# Altium footprint library PCB2.PcbLib: 48 footprints (part 1 of 3)
Each footprint in its own frame and in the unit in brackets; x right, y up, seen from the top. Pads: shape width x height; smd on the part's side, far side on the other; paste and mask are expansions set on the pad; w line width, h text height; cw(c..) or ccw(c..) is an arc to the next point about the centre after c.
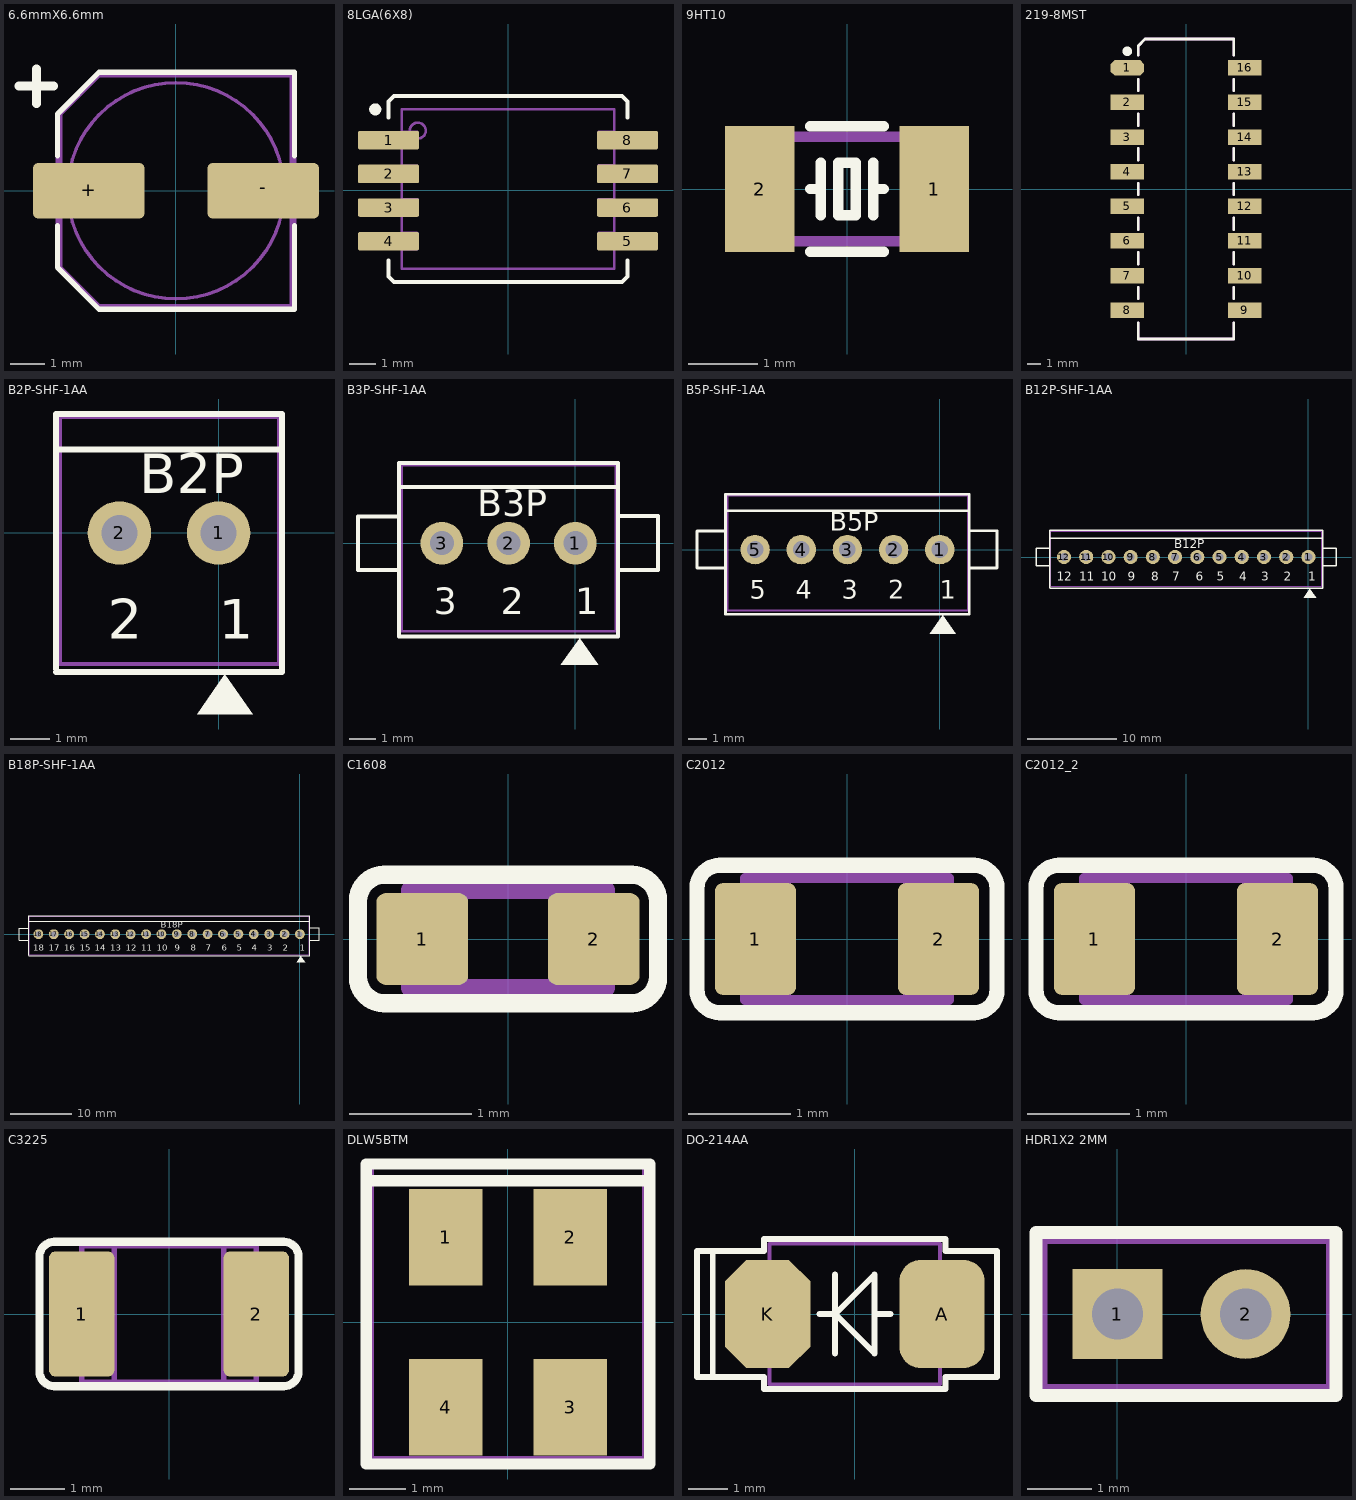
[diagram p0: the footprints below, top view; thin cyan lines are the x and y axes]

## 6.6mmX6.6mm [mm]
pads (2):
  rrect20% 3.2x1.6 smd: +(-2.5,0) -(2.5,0)
Top Overlay:
  lines w0.15: -3.4,-1 -3.4,-2.2 -2.2,-3.4 3.4,-3.4 3.4,-1 ; -3.4,1 -3.4,2.2 -2.2,3.4 3.4,3.4 3.4,1
  lines w0.25: -4.5,3 -3.5,3 ; -4,2.5 -4,3.5
Mechanical 5:
  lines w0.1: -3.4,-2.2 -2.2,-3.4 3.4,-3.4 3.4,3.4 -2.2,3.4 -3.4,2.2 -3.4,-2.2
  text ".designator" at -2.88,-0.65 h1.3
Mechanical 13:
  circle w0.1: c0,0 r3.1
  lines w0.1: -3.3,-2.2 -3.3,2.2 -2.2,3.3 3.3,3.3 3.3,-3.3 -2.2,-3.3 -3.3,-2.2
3D body: height 5.8, standoff 1, extent -3.099,-3.099 3.099,3.099
3D body: height 1, standoff 0, extent -3.301,-3.301 3.301,3.301

## 8LGA(6X8) [mm]
pads (8):
  rrect20% 2.3x0.7 smd mask+0.05: 1(-4.5,1.89) 2(-4.5,0.62) 3(-4.5,-0.65) 4(-4.5,-1.92) 5(4.5,-1.92) 6(4.5,-0.65) 7(4.5,0.62) 8(4.5,1.89)
Top Overlay:
  circle w0.254: c-5,3.05 r0.1
  lines w0.15: -4.5,-2.65 -4.5,-3.25 -4.3,-3.45 2.5,-3.45 4.3,-3.45 4.5,-3.25 4.5,-2.65 ; -4.5,2.75 -4.5,3.35 -4.3,3.55 2.5,3.55 4.3,3.55 4.5,3.35 4.5,2.75
Mechanical 5:
  circle w0.1: c-3.4,2.25 r0.3
  lines w0.1: -4,-2.21 -3.429,-2.21 -3.429,-1.61 -4,-1.61 ; -4,-0.94 -3.429,-0.94 -3.429,-0.34 -4,-0.34 ; -4,0.33 -3.429,0.33 -3.429,0.93 -4,0.93 ; -4,1.6 -3.429,1.6 -3.429,2.2 -4,2.2 ; 4,-2.2 3.429,-2.2 3.429,-1.6 4,-1.6 ; 4,-0.93 3.429,-0.93 3.429,-0.33 4,-0.33 ; 4,0.34 3.429,0.34 3.429,0.94 4,0.94 ; 4,1.61 3.429,1.61 3.429,2.21 4,2.21 ; -4,-2.95 -4,3.05 4,3.05 4,-2.95 -4,-2.95
Mechanical 13:
  lines w0.1: -4,-2.95 4,-2.95 4,3.05 -4,3.05 -4,-2.95

## 9HT10 [mm]
pads (2):
  rect 1x1.8 smd: 1(1.25,0) 2(-1.25,0)
Top Overlay:
  lines w0.15: -0.525,-0.9 0.525,-0.9 ; -0.525,0 -0.375,0 ; -0.525,0.9 0.525,0.9 ; -0.375,-0.375 -0.375,0.375 ; 0.375,-0.375 0.375,0.375 ; 0.375,0 0.525,0 ; -0.125,-0.375 0.125,-0.375 0.125,0.375 -0.125,0.375 -0.125,-0.375
Mechanical 5:
  lines w0.15: -1.6,-0.75 1.6,-0.75 1.6,0.75 -1.6,0.75 -1.6,-0.75
Mechanical 13:
  lines w0.15: -1.6,-0.75 -1.6,0.75 1.6,0.75 1.6,-0.75 -1.6,-0.75

## 219-8MST [mm]
pads (16):
  oct 2.44x1.13 smd: 1(-4.3,8.89)
  rect 2.44x1.13 smd: 2(-4.3,6.35) 3(-4.3,3.81) 4(-4.3,1.27) 5(-4.3,-1.27) 6(-4.3,-3.81) 7(-4.3,-6.35) 8(-4.3,-8.89) 9(4.3,-8.89) 10(4.3,-6.35) 11(4.3,-3.81) 12(4.3,-1.27) 13(4.3,1.27) 14(4.3,3.81) 15(4.3,6.35) 16(4.3,8.89)
Top Overlay:
  circle w0.5: c-4.3,10.1 r0.1
  lines w0.2: -3.5,-9.8 -3.5,-11 3.5,-11 3.5,-9.8 ; -3.5,-8.05 -3.5,-7.2 ; -3.5,-5.51 -3.5,-4.66 ; -3.5,-2.97 -3.5,-2.12 ; -3.5,-0.43 -3.5,0.42 ; -3.5,2.12 -3.5,2.97 ; -3.5,4.66 -3.5,5.51 ; -3.5,7.2 -3.5,8.05 ; -3.5,9.8 -3.5,10.5 -3,11 3.5,11 3.5,9.8 ; 3.5,-8.05 3.5,-7.2 ; 3.5,-5.51 3.5,-4.66 ; 3.5,-2.97 3.5,-2.12 ; 3.5,-0.43 3.5,0.42 ; 3.5,2.12 3.5,2.97 ; 3.5,4.66 3.5,5.51 ; 3.5,7.2 3.5,8.05
Mechanical 5:
  lines w0.2: -3.5,-9.8 -3.5,-11 3.5,-11 3.5,-9.8 ; -3.5,-8.05 -3.5,-7.2 ; -3.5,-5.51 -3.5,-4.66 ; -3.5,-2.97 -3.5,-2.12 ; -3.5,-0.43 -3.5,0.42 ; -3.5,2.12 -3.5,2.97 ; -3.5,4.66 -3.5,5.51 ; -3.5,7.2 -3.5,8.05 ; -3.5,9.8 -3.5,10.5 -3,11 3.5,11 3.5,9.8 ; 3.5,-8.05 3.5,-7.2 ; 3.5,-5.51 3.5,-4.66 ; 3.5,-2.97 3.5,-2.12 ; 3.5,-0.43 3.5,0.42 ; 3.5,2.12 3.5,2.97 ; 3.5,4.66 3.5,5.51 ; 3.5,7.2 3.5,8.05
Mechanical 6:
  lines w0.2: -3.5,-9.8 -3.5,-11 3.5,-11 3.5,-9.8 ; -3.5,-8.05 -3.5,-7.2 ; -3.5,-5.51 -3.5,-4.66 ; -3.5,-2.97 -3.5,-2.12 ; -3.5,-0.43 -3.5,0.42 ; -3.5,2.12 -3.5,2.97 ; -3.5,4.66 -3.5,5.51 ; -3.5,7.2 -3.5,8.05 ; -3.5,9.8 -3.5,10.5 -3,11 3.5,11 3.5,9.8 ; 3.5,-8.05 3.5,-7.2 ; 3.5,-5.51 3.5,-4.66 ; 3.5,-2.97 3.5,-2.12 ; 3.5,-0.43 3.5,0.42 ; 3.5,2.12 3.5,2.97 ; 3.5,4.66 3.5,5.51 ; 3.5,7.2 3.5,8.05
3D body "User Library-smt_dip_sw_8pos.step": height 6.05, standoff 0, extent -5.13,-11.075 5.15,11.025

## B2P-SHF-1AA [mm]
pads (2):
  round 1.6 hole 0.9: 1(0,0) 2(-2.5,0)
Top Overlay:
  region: 0.158,-3.564 0.858,-4.564 -0.542,-4.564
  lines w0.15: -4.1,-3.5 1.6,-3.5 1.6,3 -4.1,3 -4.1,-3.429 ; -4.1,2.1 1.6,2.1
  text "1" at 0,-2.667 h1
  text "2" at -2.8,-2.667 h1
  text "B2P" at -2,1 h1
Mechanical 5:
  lines w0.1: -4,-3.302 -4,2.921 1.524,2.921 1.524,-3.302 -4,-3.302
Mechanical 13:
  lines w0.1: -4,-3.302 1.524,-3.302 1.524,2.921 -4,2.921

## B3P-SHF-1AA [mm]
pads (3):
  round 1.6 hole 0.9: 1(0,0) 2(-2.5,0) 3(-5,0)
Top Overlay:
  region: 0.158,-3.564 0.858,-4.564 -0.542,-4.564
  lines w0.15: -6.645,-1 -8.145,-1 -8.145,1 -6.645,1 ; -6.6,-3.5 1.6,-3.5 1.6,3 -6.6,3 -6.6,-3.429 ; -6.6,2.1 1.6,2.1 ; 1.6,-1 3.1,-1 3.1,1.016 1.6,1.016
  text "B3P" at -3.683,1.016 h1
  text "3" at -5.3,-2.667 h1
  text "2" at -2.8,-2.667 h1
  text "1" at 0,-2.667 h1
Mechanical 5:
  lines w0.1: -6.5,-3.302 1.524,-3.302 1.524,2.921 -6.5,2.921 -6.5,-3.302
Mechanical 13:
  lines w0.1: -6.5,-3.302 1.524,-3.302 1.524,2.921 -6.5,2.921

## B5P-SHF-1AA [mm]
pads (5):
  round 1.6 hole 0.9: 1(0,0) 2(-2.5,0) 3(-5,0) 4(-7.5,0) 5(-10,0)
Top Overlay:
  region: 0.158,-3.564 0.858,-4.564 -0.542,-4.564
  lines w0.15: -11.645,-1 -13.145,-1 -13.145,1 -11.645,1 ; -11.6,-3.5 1.6,-3.5 1.6,3 -11.6,3 -11.6,-3.429 ; -11.6,2.1 1.6,2.1 ; 1.6,-1 3.1,-1 3.1,1.016 1.6,1.016
  text "B5P" at -5.969,1.016 h1
  text "4" at -7.8,-2.667 h1
  text "3" at -5.3,-2.667 h1
  text "2" at -2.8,-2.667 h1
  text "5" at -10.3,-2.667 h1
  text "1" at 0,-2.667 h1
Mechanical 5:
  lines w0.1: -11.5,-3.302 -11.5,2.921 1.524,2.921 1.524,-3.302 -11.5,-3.302
Mechanical 13:
  lines w0.1: -11.5,-3.302 1.524,-3.302 1.524,2.921 -11.5,2.921

## B12P-SHF-1AA [mm]
pads (12):
  round 1.6 hole 0.9: 1(0,0) 2(-2.5,0) 3(-5,0) 4(-7.5,0) 5(-10,0) 6(-12.5,0) 7(-15,0) 8(-17.5,0) 9(-20,0) 10(-22.5,0) 11(-25,0) 12(-27.5,0)
Top Overlay:
  region: 0.158,-3.564 0.858,-4.564 -0.542,-4.564
  lines w0.15: -29.145,-1 -30.645,-1 -30.645,1 -29.145,1 ; -29.1,-3.5 1.6,-3.5 1.6,3 -29.1,3 -29.1,-3.429 ; -29.1,2.1 1.6,2.1 ; 1.6,-1 3.1,-1 3.1,1.016 1.6,1.016
  text "B12P" at -15.113,1.016 h1
  text "11" at -25.8,-2.667 h1
  text "8" at -17.7,-2.667 h1
  text "7" at -15.3,-2.667 h1
  text "4" at -7.8,-2.667 h1
  text "3" at -5.3,-2.667 h1
  text "2" at -2.8,-2.667 h1
  text "12" at -28.3,-2.667 h1
  text "9" at -20.3,-2.667 h1
  text "10" at -23.3,-2.667 h1
  text "5" at -10.3,-2.667 h1
  text "6" at -12.7,-2.667 h1
  text "1" at 0,-2.667 h1
Mechanical 5:
  lines w0.1: -29,-3.302 -29,2.921 1.524,2.921 1.524,-3.302 -29,-3.302
Mechanical 13:
  lines w0.1: -29,-3.302 1.524,-3.302 1.524,2.921 -29,2.921

## B18P-SHF-1AA [mm]
pads (18):
  round 1.6 hole 0.9: 1(0,0) 2(-2.5,0) 3(-5,0) 4(-7.5,0) 5(-10,0) 6(-12.5,0) 7(-15,0) 8(-17.5,0) 9(-20,0) 10(-22.5,0) 11(-25,0) 12(-27.5,0) 13(-30,0) 14(-32.5,0) 15(-35,0) 16(-37.5,0) 17(-40,0) 18(-42.5,0)
Top Overlay:
  region: 0.158,-3.564 0.858,-4.564 -0.542,-4.564
  lines w0.15: -44.145,-1 -45.645,-1 -45.645,1 -44.145,1 ; -44.1,-3.5 1.6,-3.5 1.6,3 -44.1,3 -44.1,-3.429 ; -44.1,2.1 1.6,2.1 ; 1.6,-1 3.1,-1 3.1,1.016 1.6,1.016
  text "14" at -33.3,-2.667 h1
  text "1" at 0,-2.667 h1
  text "6" at -12.7,-2.667 h1
  text "5" at -10.3,-2.667 h1
  text "10" at -23.3,-2.667 h1
  text "9" at -20.3,-2.667 h1
  text "13" at -30.8,-2.667 h1
  text "12" at -28.3,-2.667 h1
  text "17" at -40.8,-2.667 h1
  text "16" at -38.3,-2.667 h1
  text "18" at -43.3,-2.667 h1
  text "2" at -2.8,-2.667 h1
  text "3" at -5.3,-2.667 h1
  text "4" at -7.8,-2.667 h1
  text "7" at -15.3,-2.667 h1
  text "8" at -17.7,-2.667 h1
  text "11" at -25.8,-2.667 h1
  text "15" at -35.8,-2.667 h1
  text "B18P" at -22.606,1.016 h1
Mechanical 5:
  lines w0.1: -44.069,-3.302 1.524,-3.302 1.524,2.921 -43.942,2.921 ; -44,-3.302 -44,2.921
Mechanical 13:
  lines w0.1: -44.069,-3.302 1.524,-3.302 1.524,2.921 -43.942,2.921

## C1608 [mm]
pads (2):
  rrect20% 0.75x0.75 smd mask+0.05: 1(-0.7,0) 2(0.7,0)
Top Overlay:
  lines w0.15: -1.225,-0.31 ccw(c-1.01,-0.31) -1.01,-0.525 1.01,-0.525 ccw(c1.01,-0.31) 1.225,-0.31 1.225,0.31 ccw(c1.01,0.31) 1.01,0.525 -1.01,0.525 ccw(c-1.01,0.31) -1.225,0.31 -1.225,-0.31
Mechanical 5:
  lines w0.1: -1.225,-0.31 ccw(c-1.01,-0.31) -1.01,-0.525 1.01,-0.525 ccw(c1.01,-0.31) 1.225,-0.31 1.225,0.31 ccw(c1.01,0.31) 1.01,0.525 -1.01,0.525 ccw(c-1.01,0.31) -1.225,0.31 -1.225,-0.31
  text ".designator" at -1.1,-0.25 h0.5
Mechanical 13:
  lines w0.15: -0.4,-0.4 -0.4,0.4 ; 0.4,-0.4 0.4,0.4 ; -0.8,-0.4 -0.8,0.4 0.8,0.4 0.8,-0.4 -0.8,-0.4
3D body: height 0.8, standoff 0, extent -0.799,-0.399 -0.401,0.399
3D body: height 0.8, standoff 0, extent -0.399,-0.399 0.399,0.399
3D body: height 0.8, standoff 0, extent 0.401,-0.399 0.799,0.399

## C2012 [mm]
pads (2):
  rrect20% 0.8x1.1 smd mask+0.05: 1(-0.9,0) 2(0.9,0)
Top Overlay:
  lines w0.15: -1.475,-0.5 ccw(c-1.25,-0.5) -1.25,-0.725 1.25,-0.725 ccw(c1.25,-0.5) 1.475,-0.5 1.475,0.5 ccw(c1.25,0.5) 1.25,0.725 -1.25,0.725 ccw(c-1.25,0.5) -1.475,0.5 -1.475,-0.5
Mechanical 5:
  lines w0.1: -1.475,-0.5 ccw(c-1.25,-0.5) -1.25,-0.725 1.25,-0.725 ccw(c1.25,-0.5) 1.475,-0.5 1.475,0.5 ccw(c1.25,0.5) 1.25,0.725 -1.25,0.725 ccw(c-1.25,0.5) -1.475,0.5 -1.475,-0.5
  text ".designator" at -1.33,-0.3 h0.6
Mechanical 13:
  lines w0.1: -0.6,-0.6 -0.6,0.6 ; 0.6,-0.6 0.6,0.6 ; -1,-0.6 -1,0.6 1,0.6 1,-0.6 -1,-0.6
3D body: height 0.85, standoff 0, extent -0.599,-0.599 0.599,0.599
3D body: height 0.85, standoff 0, extent -0.999,-0.599 -0.601,0.599
3D body: height 0.85, standoff 0, extent 0.601,-0.599 0.999,0.599

## C2012_2 [mm]
pads (2):
  rrect20% 0.8x1.1 smd mask+0.05: 1(-0.9,0) 2(0.9,0)
Top Overlay:
  lines w0.15: -1.475,-0.5 ccw(c-1.25,-0.5) -1.25,-0.725 1.25,-0.725 ccw(c1.25,-0.5) 1.475,-0.5 1.475,0.5 ccw(c1.25,0.5) 1.25,0.725 -1.25,0.725 ccw(c-1.25,0.5) -1.475,0.5 -1.475,-0.5
Mechanical 5:
  lines w0.1: -1.475,-0.5 ccw(c-1.25,-0.5) -1.25,-0.725 1.25,-0.725 ccw(c1.25,-0.5) 1.475,-0.5 1.475,0.5 ccw(c1.25,0.5) 1.25,0.725 -1.25,0.725 ccw(c-1.25,0.5) -1.475,0.5 -1.475,-0.5
  text ".designator" at -1.33,-0.3 h0.6
Mechanical 13:
  lines w0.1: -0.6,-0.6 -0.6,0.6 ; 0.6,-0.6 0.6,0.6 ; -1,-0.6 -1,0.6 1,0.6 1,-0.6 -1,-0.6
3D body: height 0.85, standoff 0, extent -0.599,-0.599 0.599,0.599
3D body: height 0.85, standoff 0, extent -0.999,-0.599 -0.601,0.599
3D body: height 0.85, standoff 0, extent 0.601,-0.599 0.999,0.599

## C3225 [mm]
pads (2):
  rrect20% 1.2x2.3 smd mask+0.05: 1(-1.6,0) 2(1.6,0)
Top Overlay:
  lines w0.15: -2.375,-1.05 ccw(c-2.1,-1.05) -2.1,-1.325 2.1,-1.325 ccw(c2.1,-1.05) 2.375,-1.05 2.375,1.05 ccw(c2.1,1.05) 2.1,1.325 -2.1,1.325 ccw(c-2.1,1.05) -2.375,1.05 -2.375,-1.05
Mechanical 5:
  lines w0.1: -2.375,-1.05 ccw(c-2.1,-1.05) -2.1,-1.325 2.1,-1.325 ccw(c2.1,-1.05) 2.375,-1.05 2.375,1.05 ccw(c2.1,1.05) 2.1,1.325 -2.1,1.325 ccw(c-2.1,1.05) -2.375,1.05 -2.375,-1.05
  text ".designator" at -2,-0.45 h0.9
Mechanical 13:
  lines w0.1: -1,-1.25 -1,1.25 ; 1,-1.25 1,1.25 ; -1.6,-1.25 1.6,-1.25 1.6,1.25 -1.6,1.25 -1.6,-1.25
3D body: height 1, standoff 0, extent -1.6,-1.25 -1,1.25
3D body: height 1, standoff 0, extent 1,-1.25 1.6,1.25
3D body: height 1, standoff 0, extent -1,-1.25 1,1.25

## DLW5BTM [mm]
pads (4):
  rect 1.3x1.7 smd: 1(-1.1,1.5) 2(1.1,1.5) 3(1.1,-1.5) 4(-1.1,-1.5)
Top Overlay:
  lines w0.2: -2.5,2.5 -2.5,-2.5 2.5,-2.5 2.5,2.5 ; -2.5,2.5 2.5,2.5 ; -2.5,2.5 -2.5,2.794 2.5,2.794 2.5,2.5
Mechanical 5:
  lines w0.1: -2.413,2.54 2.413,2.54 ; -2.413,-2.413 -2.413,2.794 2.413,2.794 2.413,-2.413 -2.413,-2.413

## DO-214AA [mm]
pads (2):
  rrect50% 2.159x2.743 smd: A(2.21,0)
  oct 2.159x2.743 smd: K(-2.21,0)
Top Overlay:
  lines w0.15: -0.9,0 -0.5,0 ; -0.5,-1 -0.5,1 ; -0.45,-0.05 0.5,-1 0.5,1 -0.45,0.05 ; 0.5,0 0.9,0 ; -3.6,-1.6 -4,-1.6 -4,1.6 -3.6,1.6 ; -3.6,-1.6 -2.3,-1.6 -2.3,-1.9 2.3,-1.9 2.3,-1.6 3.6,-1.6 3.6,1.6 2.3,1.6 2.3,1.9 -2.3,1.9 -2.3,1.6 -3.6,1.6 ; -3.6,-1.6 -3.6,1.6
Mechanical 5:
  lines w0.1: -2.16,-1 -2.72,-1 -2.72,1 -2.16,1 ; 2.16,-1 2.72,-1 2.72,1 2.16,1 ; -2.16,-1.78 -2.16,1.78 2.16,1.78 2.16,-1.78 -2.16,-1.78
  text ".designator" at -1.55,-0.35 h0.7
Mechanical 13:
  lines w0.1: -2.16,-1 -2.72,-1 -2.72,1 -2.16,1 ; 2.16,-1 2.72,-1 2.72,1 2.16,1 ; -2.16,-1.78 -2.16,1.78 2.16,1.78 2.16,-1.78 -2.16,-1.78
3D body: height 0.5, standoff 0, extent -2.719,-0.999 -2.161,0.999
3D body: height 0.5, standoff 0, extent 2.161,-0.999 2.719,0.999
3D body: height 0.8, standoff 0, extent -2.159,-1.779 2.159,1.779

## HDR1X2 2MM [mm]
pads (2):
  rect 1.4x1.4 hole 0.8: 1(0,0)
  round 1.4 hole 0.8: 2(2,0)
Top Overlay:
  lines w0.2: -1.27,-1.27 3.41,-1.27 3.41,1.27 -1.27,1.27 -1.27,-1.27
Mechanical 5:
  lines w0.1: -1.143,-1.143 -1.143,1.143 3.302,1.143 3.302,-1.143 -1.143,-1.143